# Altium footprint library LGR971.PcbLib: 1 footprints
Each footprint in its own frame and in the unit in brackets; x right, y up, seen from the top. Pads: shape width x height; smd on the part's side, far side on the other; paste and mask are expansions set on the pad; w line width, h text height; cw(c..) or ccw(c..) is an arc to the next point about the centre after c.
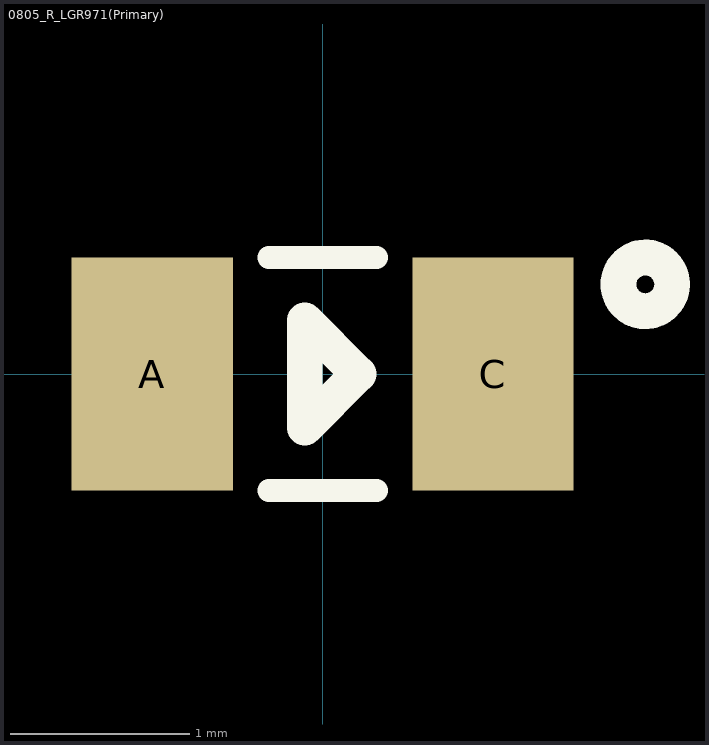
[diagram p0: the footprint, top view; thin cyan lines are the x and y axes]

## 0805_R_LGR971(Primary) [mm]
pads (2):
  rect 0.9x1.3 smd: A(-0.95,0) C(0.95,0)
Top Overlay:
  circle w0.2: c1.8,0.5 r0.15
  lines w0.127: -0.3,-0.65 0.3,-0.65 ; -0.3,0.65 0.3,0.65
  lines w0.2: -0.1,-0.3 -0.1,0.3 0.2,0 -0.1,-0.3